# Altium footprint library PcbLib1.PcbLib: 1 footprints
Each footprint in its own frame and in the unit in brackets; x right, y up, seen from the top. Pads: shape width x height; smd on the part's side, far side on the other; paste and mask are expansions set on the pad; w line width, h text height; cw(c..) or ccw(c..) is an arc to the next point about the centre after c.
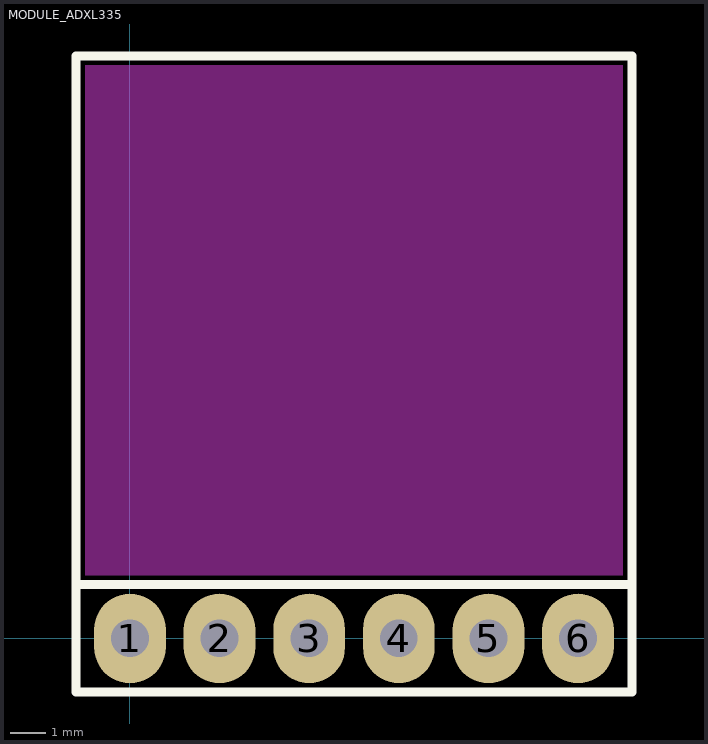
[diagram p0: the footprint, top view; thin cyan lines are the x and y axes]

## MODULE_ADXL335 [mil]
pads (6):
  oval 80x100 hole 42: 1(0,0) 2(100,0) 3(200,0) 4(300,0) 5(400,0) 6(500,0)
Top Layer keep-out:
  rectangle: -50,70 550,640
Top Overlay:
  lines w10: -60,60 560,60 ; -60,-60 -60,650 560,650 560,-60 -60,-60
3D body "SSW-106-01-G-S.stp": height 335, standoff -104, extent -60,-50 560,45